# Altium footprint library TT Electronics.PcbLib: 3 footprints
Each footprint in its own frame and in the unit in brackets; x right, y up, seen from the top. Pads: shape width x height; smd on the part's side, far side on the other; paste and mask are expansions set on the pad; w line width, h text height; cw(c..) or ccw(c..) is an arc to the next point about the centre after c.
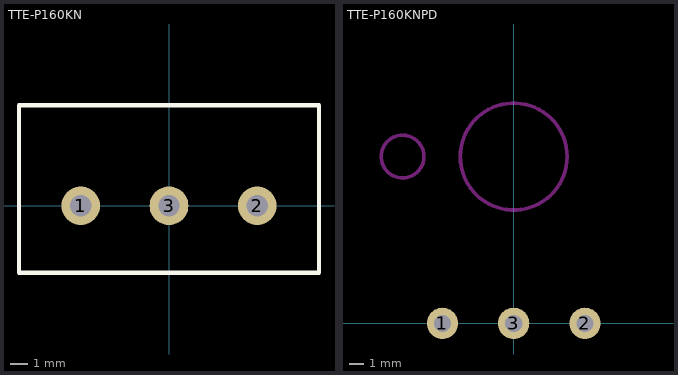
[diagram p0: the footprints below, top view; thin cyan lines are the x and y axes]

## TTE-P160KN [mm]
pads (3):
  round 2.2 hole 1.2: 1(-5,0) 2(5,0) 3(0,0)
Top Overlay:
  lines w0.254: -8.5,-3.8 -8.5,5.7 8.5,5.7 8.5,-3.8 -8.5,-3.8
Drill Guide:
  lines w0.254: -7.62,-3.8 7.62,-3.8
  text "Board Edge" at 8.255,-4.445 h1.52

## TTE-P160KNP [mm]

## TTE-P160KNPD [mm]
pads (3):
  round 2.2 hole 1.2: 1(-5,0) 2(5,0) 3(0,0)
Bottom Overlay:
  lines w0.254: -8.5,3.45 8.5,3.45 8.5,19.95 -8.5,19.95 -8.5,3.45
Keep-Out Layer:
  circle w0.254: c-7.8,11.7 r1.5
  circle w0.254: c0,11.7 r3.75